# Altium schematic symbol library connectors.SchLib: 81 symbols
Pins are listed as number, name and electrical type; pins without a type are passive.

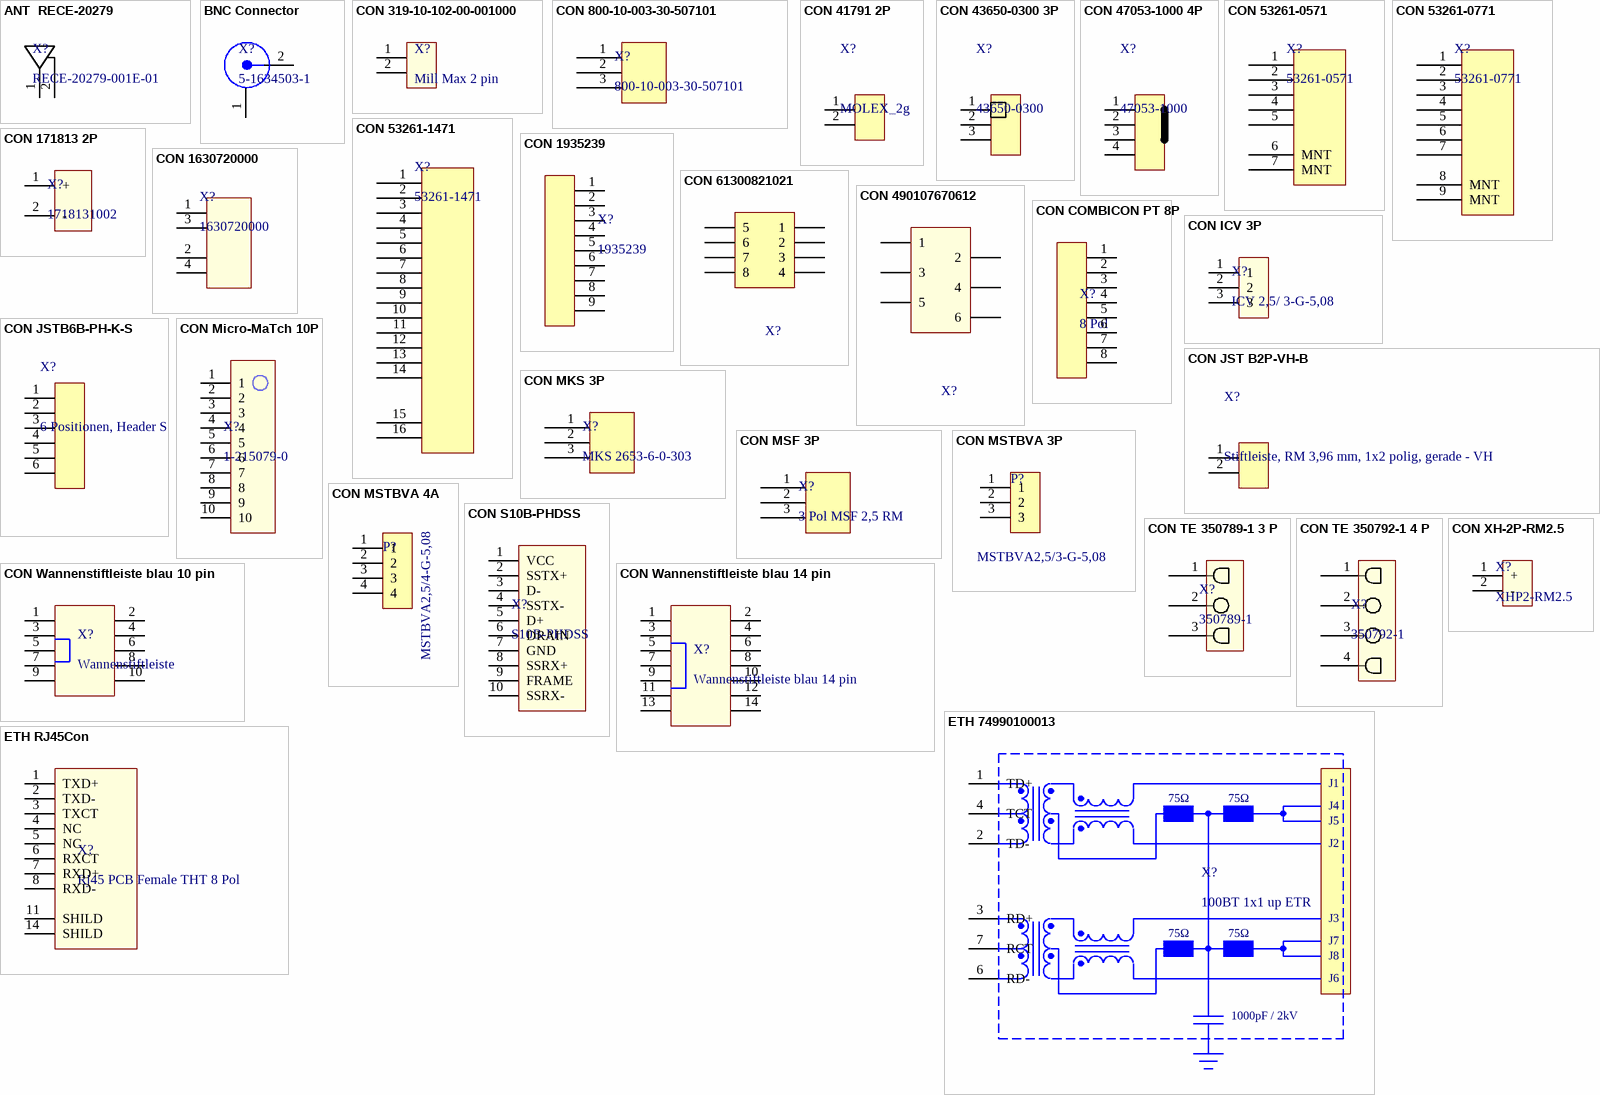
[diagram p0: symbols ANT  RECE-20279 to ETH RJ45Con]

## ANT  RECE-20279
designator X?, comment RECE-20279-001E-01
RF-Steckverbinder/Koaxial-Steckverbinder ONBRD IPEX MHF RECEPTACLE; Manufacturer: TAOGLAS; Manufacturer Part Number: RECE-20279-001E-01; Created By: Nils Minor
footprint IPEX-20279-001E
pins: 1 "USB Vcc [Red]", 2 "USB Data - [White]"

## BNC Connector
designator X?, comment 5-1634503-1
BNC Connector; Manufacturer: TE Connectivity (Tyco Electronics); Manufacturer Part Number: 5-1634503-1; Created By: Nils Minor
footprint 5-1634503-1
pins: 1 "USB Vcc [Red]", 2 "USB Data - [White]"

## CON 319-10-102-00-001000
designator X?, comment Mill Max 2 pin
824-22-002-00-001000; Manufacturer Part Number: 319-10-102-00-001000; Created By: Nils Minor; Manufacturer: Mill Max
footprint 319-10-102-00-001000
pins: 1, 2

## CON 800-10-003-30-507101
designator X?, comment 800-10-003-30-507101
3POL Steckverbinder; Manufacturer: Preci DIP; Created By: Nils Minor; Manufacturer Part Number: 800-10-003-30-507101
footprint 800-10-003-30-507101
pins: 1, 2, 3

## CON 41791 2P
designator X?, comment MOLEX_2g
MOLEX Baureihe 41791; Created by: Nils Minor; Manufacturer: 26-60-4020; Manufacturer Part Number: Molex
footprint Molex_2p_180
pins: 1, 2

## CON 43650-0300 3P
designator X?, comment 43650-0300
Connector Wire to Board Header 3 Position 3mm Solder Right Angle Thru-Hole; Manufacturer Part Number: Molex; Created by: Nils Minor; Manufacturer: 43650-0300
footprint Molex_43650-0300_0
pins: 1, 2, 3

## CON 47053-1000 4P
designator X?, comment 47053-1000
KK® 254 Vertical Header, with Friction Lock, 4 Circuits, PC Tail Length: 3.50mm; Manufacturer Part Number: Molex; Created by: Nils Minor; Manufacturer: 47053-1000
footprint Molex_47053-1000_0
pins: 1, 2, 3, 4

## CON 53261-0571
designator X?, comment 53261-0571
1.25mm (.049") Pitch PicoBlade Header, Surface Mount, Right Angle, Lead-free, 05 Circuits; Manufacturer: Molex; Manufacturer Part Number: 53261-0571; Created By: Nils Minor
footprint 53261-0571
pins: 1, 2, 3, 4, 5, 6 MNT, 7 MNT

## CON 53261-0771
designator X?, comment 53261-0771
1.25mm (.049") Pitch PicoBlade Header, Surface Mount, Right Angle, Lead-free, 7 Circuits; Manufacturer: Molex; Manufacturer Part Number: 53261-0771; Created By: Nils Minor
footprint 53261-0771
pins: 1, 2, 3, 4, 5, 6, 7, 8 MNT, 9 MNT

## CON 53261-1471
designator X?, comment 53261-1471
1.25mm (.049") Pitch PicoBlade Header, Surface Mount, Right Angle, Lead-free, 14 Circuits; Manufacturer: Molex; Manufacturer Part Number: 53261-1471; Created By: Nils Minor
footprint 53261-1471
pins: 1, 2, 3, 4, 5, 6, 7, 8, 9, 10, 11, 12, 13, 14, 15, 16

## CON 171813 2P
designator X?, comment 1718131002
Sockel & Kabelgehäuse KK Hdr Vrt 2 Ckt 3.96mm Pitch 15um Au; Manufacturer: Molex; Manufacturer Part Number: 171813-1002; Created By: Nils Minor
footprint Molex 2Pin Connector KK-Serie (www.molex.com/pdm_docs/sd/1718131002_sd.pdf)
pins: 1 +, 2 -

## CON 1935239
designator X?, comment 1935239
Terminal BLOCK PCB 9POS 5.0MM GREEN; Manufacturer: Phoenix Contact; Manufacturer Part Number: 1935239; Created By: Nils Minor
footprint 1935239
pins: 1, 2, 3, 4, 5, 6, 7, 8, 9

## CON 1630720000
designator X?, comment 1630720000
Conn Board to Board SKT 3 POS 5.08mm Solder ST Thru-Hole Box; Created By: Nils Minor
footprint BLL 5.08_3_180 3.2 SN OR 1630720000
pins: 1, 2, 3, 4

## CON 61300821021
designator X?, comment 08p  (value not drawn)
WR-PHD 2.54 mm THT Angled Dual Pin Header, 08p; Created by: Nils Minor
footprint 61300821021
pins: 1, 2, 3, 4, 5, 6, 7, 8

## CON 490107670612
designator X?, comment 490107670612  (value not drawn)
REDFIT IDC SKEDD Connector WR-WST, 6 pin; Created by: Nils Minor
footprint 490107670612
pins: 1, 2, 3, 4, 5, 6

## CON COMBICON PT 8P
designator X?, comment 8 Pol
Terminal BLOCK PCB 8POS 5.0MM GREEN; Manufacturer: Phoenix Contact; Manufacturer Part Number: 1935226; Created By: Nils Minor
footprint 1935226
pins: 1, 2, 3, 4, 5, 6, 7, 8

## CON ICV 3P
designator X?, comment ICV 2,5/ 3-G-5,08
ICV 2,5/ 3-G-5,08 -  Reihenklemme, Buchse, 5.08 mm, 3 -polig, 12 A, 320 V, Durchsteckmontage, vertikal; Manufacturer: Phoenix Contact; Manufacturer Part Number: ICV 2,5/ 3-G-5,08; Created By: Nils Minor
footprint ICV 2,5/ 3-G-5,08 (1785955)
pins: 1, 2, 3

## CON JST B2P-VH-B
designator X?, comment Stiftleiste, RM 3,96 mm, 1x2 polig, gerade - VH
Manufacturer: JST; Manufacturer Part Number: B2P-VH-B; Value: Steckverbinder; Created by: Nils Minor
footprint B2P-VH-B
pins: 1, 2

## CON JSTB6B-PH-K-S
designator X?, comment 6 Positionen, Header Steckverbinder, 0,079" (2,00 mm), Durchführungsloch, rechtwinklig, Zinn
6 Positionen, Header Steckverbinder, 0,079" (2,00 mm), Durchführungsloch; Manufacturer: JST; Manufacturer Part Number: JSTB6B-PH-K-S(LF)(SN); Created by: Nils Minor; Value: Steckverbinder
footprint B6B-PH-K-S
pins: 1, 2, 3 1, 4, 5, 6

## CON Micro-MaTch 10P
designator X?, comment 1-215079-0
Wire-To-Board-Steckverbinder, 1.27 mm, 10 Kontakt(e), Buchse, Baureihe Micro-MaTch; Manufacturer: TE Connectivity; Manufacturer Part Number: 1-215079-0; Created By: Nils Minor
footprint MicroMatch_10Pol (1-215079-0)
pins: 1, 2, 3, 4, 5, 6, 7, 8, 9, 10

## CON MKS 3P
designator X?, comment MKS 2653-6-0-303
3POL Steckverbinder; Manufacturer: Stocko; Created By: Nils Minor; Manufacturer Part Number: MKS 2653-6-0-303
footprint MKS 2653-6-0-303
pins: 1, 2, 3

## CON MSF 3P
designator X?, comment 3 Pol MSF 2,5 RM
Minimodul™-Stiftleiste, stehend, mit Verriegelungslasche, Lötkontakte einreihig; Manufacturer: Lumberg; Manufacturer Part Number: 2,5 MSF 03; Created By: Nils Minor
footprint 2,5 MSF/O 03
pins: 1, 2, 3

## CON MSTBVA 3P
designator P?, comment MSTBVA2,5/3-G-5,08
Steckbare Anschlussblöcke 3POS 5.08MM PITCH TH PARALLEL/VERTICAL; Manufacturer: Phoenix Contact; Manufacturer Part Number: 1755749; Created by: Nils Minor
footprint MSTBVA3/5,08
pins: 1, 2, 3

## CON MSTBVA 4A
designator P?, comment MSTBVA2,5/4-G-5,08
Steckbare Anschlussblöcke 4 Pos 5.08mm pitch Through Hole Header; Manufacturer: Phoenix Contact; Manufacturer Part Number: 1755752; Created by: Nils Minor
footprint MSTBVA4/5,08
footprint MSTBVA4/5.08
pins: 1, 2, 3, 4

## CON S10B-PHDSS
designator X?, comment S10B-PHDSS
Conn Shrouded Header HDR 10 POS 2mm Solder RA Thru-Hole Box; Manufacturer: JST; Manufacturer Part Number: S10B-PHDSS(LF)(SN); Created By: Nils Minor
footprint B10B-PHDSS (Stehend (Top Entery))
pins: 1 VCC, 2 SSTX+, 3 D-, 4 SSTX-, 5 D+, 6 DRAIN, 7 GND, 8 SSRX+, 9 FRAME, 10 SSRX-

## CON TE 350789-1 3 P
designator X?, comment 350789-1
Wire-To-Board-Steckverbinder, vertikal, 6.35 mm, 3 Kontakt(e), Stiftleiste; Manufacturer: TE Connectivity; Manufacturer Part Number: 350789-1; Created By: Nils Minor
footprint 350789-1
pins: 1, 2, 3

## CON TE 350792-1 4 P
designator X?, comment 350792-1
CONN HEADER 4POS VERT .250 TIN; Manufacturer: TE Connectivity; Manufacturer Part Number: 350792-1; Created By: Nils Minor
footprint 350792-1
pins: 1, 2, 3, 4

## CON Wannenstiftleiste blau 10 pin
designator X?, comment Wannenstiftleiste
Wannenstiftleiste blau 10 pin; Created By: Nils Minor
footprint Wannenstiftleiste 10p
pins: 1, 2, 3, 4, 5, 6, 7, 8, 9, 10

## CON Wannenstiftleiste blau 14 pin
designator X?, comment Wannenstiftleiste blau 14 pin
Created By: Nils Minor
footprint Wannenstiftleiste 14p
pins: 1, 2, 3, 4, 5, 6, 7, 8, 9, 10, 11, 12, 13, 14

## CON XH-2P-RM2.5
designator X?, comment XHP2-RM2.5
CONN HOUSING 2.5MM 2POS; Manufacturer: Japan Solderless Terminals (JST); Manufacturer Part Number: XHP-2; Created By: Nils Minor
footprint XH-2P-RM2.5
pins: 1 +, 2 -

## ETH 74990100013
designator X?, comment 100BT 1x1 up ETR
WE-RJ45LAN 10/100BaseT; Manufacturer: Wurth Elektronik; Created By: Nils Minor
footprint 74990100013 (WE-RJ45LAN 10/100BaseT, THT)
pins: 1 TD+, 2 TD-, 3 RD+, 4 TCT, 6 RD-, 7 RCT
text: J1; 75Ω; J4; J5; J2; J3; J7; J8; J6; 1000pF / 2kV

## ETH RJ45Con
designator X?, comment Rj45 PCB Female THT 8 Pol
Created By: Nils Minor
footprint Valorcon
pins: 1 TXD+, 2 TXD-, 3 TXCT, 4 NC, 5 NC, 6 RXCT, 7 RXD+, 8 RXD-, 11 SHILD, 14 SHILD

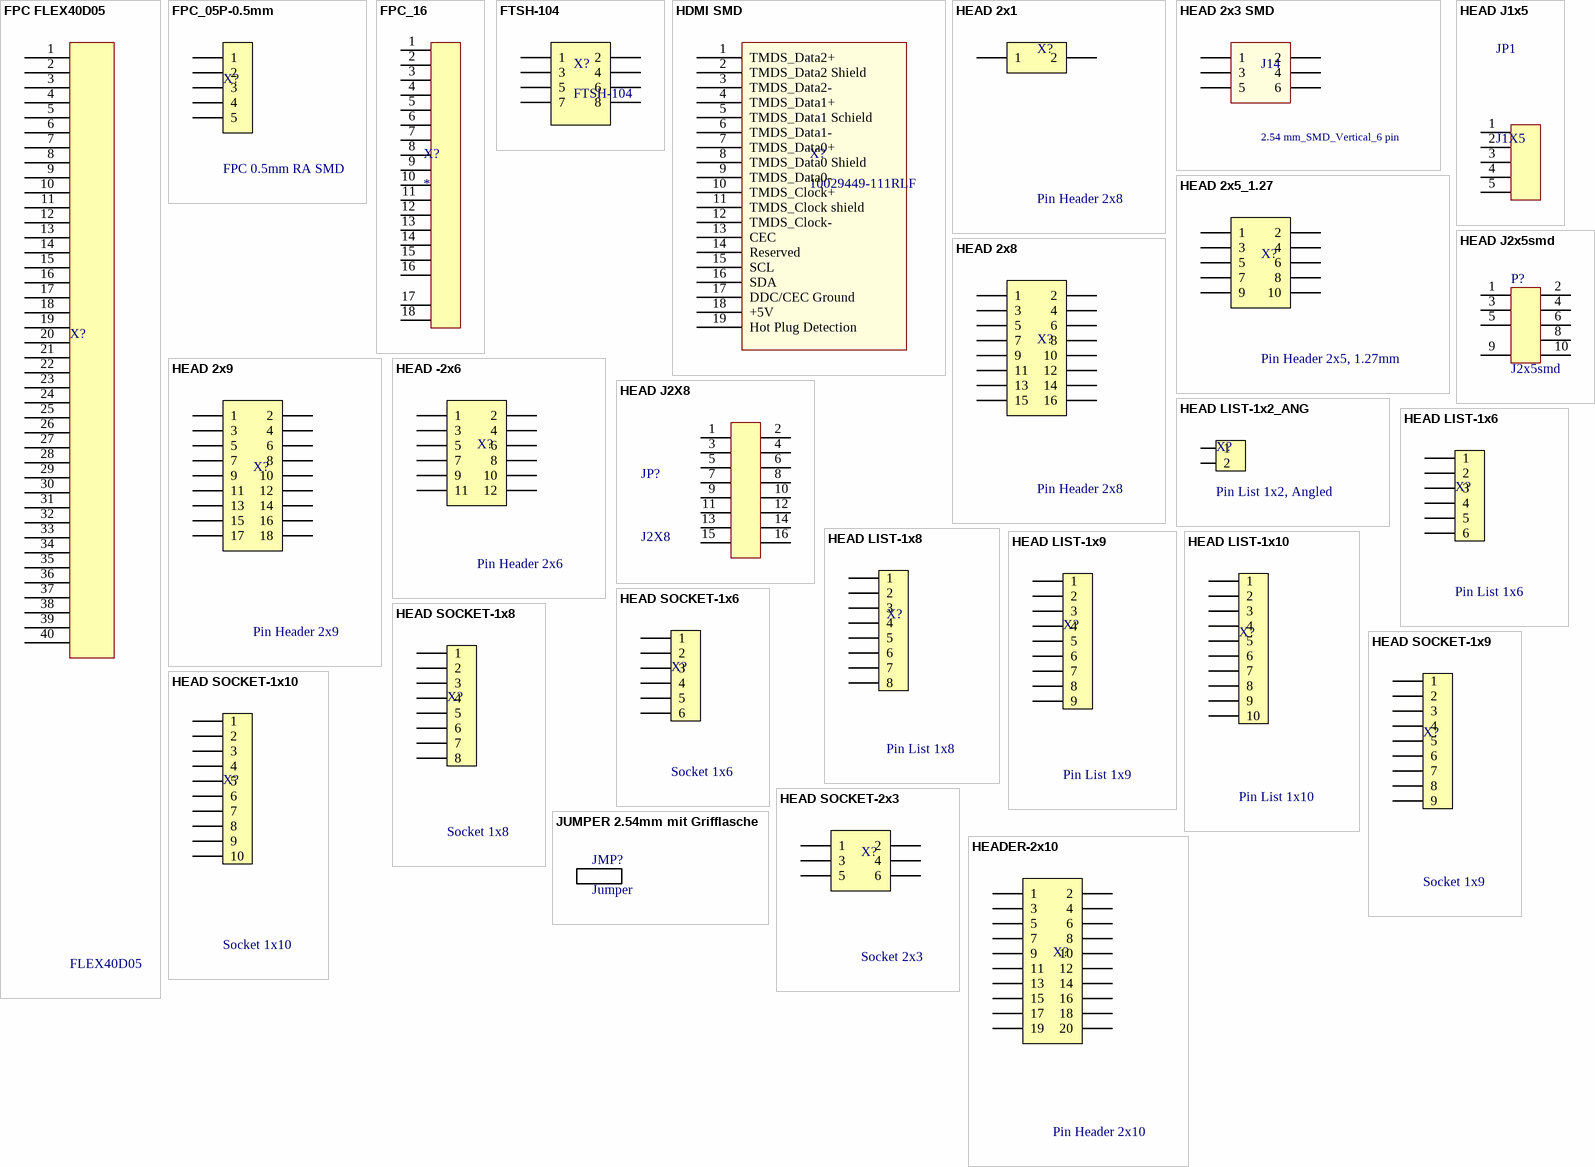
[diagram p1: symbols FPC FLEX40D05 to JUMPER 2.54mm mit Grifflasche]

## FPC FLEX40D05
designator X?, comment FLEX40D05
Steckverbinder für Flex-Kabel (LCD-Display), Fa. Molex; Created by: Nils Minor
footprint FLEX40D05
pins: 1, 2, 3, 4, 5, 6, 7, 8, 9, 10, 11, 12, 13, 14, 15, 16, 17, 18, 19, 20, 21, 22, 23, 24, 25, 26, 27, 28, 29, 30, 31, 32, 33, 34, 35, 36, 37, 38, 39, 40

## FPC_05P-0.5mm
designator X?, comment FPC 0.5mm RA SMD
0.5mm FPC, 5P,Right Angle SMT,Double Contact,H=1.2mm,White, Tin plated; Manufacturer: W-CON; Manufacturer Part Number: 5141-05RZDNWR01; Value: FPC 0.5mm RA SMD; Created By: Nils Minor
footprint FPC_05P-0.5mm-RA-SMD
pins: 1, 2, 3 (power), 4 (power), 5 (power)

## FPC_16
designator X?
FPC Connector, AMP 1-84952-6; Manufacturer: TE Connectivity (Tyco Electronics); Manufacturer Part Number: 1-1734592-6; Created By: Nils Minor
footprint FPC_16P_1MM
pins: 1, 2, 3, 4, 5, 6, 7, 8, 9, 10, 11, 12, 13, 14, 15, 16, 17, 18

## FTSH-104
designator X?
SMD Programmierschnittstelle 1.27mm; Manufacturer: Samtec; Manufacturer Part Number: FTSH-104-01-L-D; Created By: Nils Minor
footprint FTSH-104
pins: 1, 2, 3, 4, 5, 6, 7, 8

## HDMI SMD
designator X?, comment 10029449-111RLF
HDMI  Receptacle Connector 19 Position Surface Mount, Right Angle, Horizontal; Manufacturer: Amphenol / FCI; Manufacturer Part Number: 10029449-111RLF; Created By: Nils Minor
footprint 10029449-111RLF (HDMI-Buchse SMD)
pins: 1 TMDS_Data2+, 2 TMDS_Data2 Shield, 3 TMDS_Data2-, 4 TMDS_Data1+, 5 TMDS_Data1 Schield, 6 TMDS_Data1-, 7 TMDS_Data0+, 8 TMDS_Data0 Shield, 9 TMDS_Data0-, 10 TMDS_Clock+, 11 TMDS_Clock shield, 12 TMDS_Clock-, 13 CEC, 14 Reserved, 15 SCL, 16 SDA, 17 DDC/CEC Ground, 18 +5V, 19 Hot Plug Detection

## HEAD 2x1
designator X?, comment Pin Header 2x8
Pin Header 2x1, 2.54mm (100mil); Manufacturer: *; Manufacturer Part Number: *; Value: Pin Header 2x8; Created By: Nils Minor
footprint HDR-2 2.54 mm THT (Pin Header, pitch 2.54 mm, THT, Vertical, single row, 2p)
pins: 1, 2

## HEAD 2x3 SMD
designator J14, comment 2.54 mm_SMD_Vertical_6 pin
Pin Header WR-PHD, pitch 2.54 mm, SMD, Vertical, dual row, 6 pin; Manufacturer: Würth; Manufacturer Part Number: 61000621121; Created by: Nils Minor
footprint HEAD 61000621121 (Pin Header, pitch 2.54 mm, SMD, Vertical, dual row, 6p)
pins: 1, 2, 3, 4, 5, 6

## HEAD 2x5_1.27
designator X?, comment Pin Header 2x5, 1.27mm
Pin Header 2x5, 1.27mm (50mil), SMD, Keying Shroud; Manufacturer: WCON; Manufacturer Part Number: 3132-10MS0BK00R1; Value: Pin Header 2x5, 1.27mm; Created By: Nils Minor
footprint HDR_2x5-SMD-1.27mm-K
pins: 1, 2, 3, 4, 5, 6, 7, 8, 9, 10

## HEAD 2x8
designator X?, comment Pin Header 2x8
Pin Header 2x8, 2.54mm (100mil); Manufacturer: *; Manufacturer Part Number: *; Value: Pin Header 2x8; Created By: Nils Minor
footprint HDR_2x8
pins: 1, 2, 3, 4, 5, 6, 7, 8, 9, 10, 11, 12, 13, 14, 15, 16

## HEAD 2x9
designator X?, comment Pin Header 2x9
Pin Header 2x9, 2.54mm (100mil); Manufacturer: *; Manufacturer Part Number: *; Value: Pin Header 2x9; Created By: Nils Minor
footprint HDR_2x9
pins: 1, 2, 3, 4, 5, 6, 7, 8, 9, 10, 11, 12, 13, 14, 15, 16, 17, 18

## HEAD -2x6
designator X?, comment Pin Header 2x6
Pin Header 2x6, 2.54mm (100mil); Manufacturer: *; Manufacturer Part Number: *; Value: Pin Header 2x6; Created By: Nils Minor
footprint HDR_2x6
pins: 1, 2, 3, 4, 5, 6, 7, 8, 9, 10, 11, 12

## HEAD J1x5
designator JP1, comment J1X5
Jumper 1x5, Stift, gerade, RM 2.54; Value: Pin Header 1x5; Created By: Nils Minor
footprint SIP5
pins: 1, 2, 3, 4, 5

## HEAD J2x5smd
designator P?, comment J2x5smd
10 Poliger Stecker RM 1.27 SMD; Created by: Nils Minor
footprint HDR_2x5_SMD
pins: 1, 2, 3, 4, 5, 6, 8, 9, 10

## HEAD J2X8
designator JP?, comment J2X8
Jumper 2x8, Stift, gerade RM 2.54; Manufacturer Part Number: STBGS1G36L; Created by: Nils Minor
footprint J2X8
pins: 1, 2, 3, 4, 5, 6, 7, 8, 9, 10, 11, 12, 13, 14, 15, 16

## HEAD LIST-1x2_ANG
designator X?, comment Pin List 1x2, Angled
Pin List 1x2, 2.54mm (100mil), Right Angled, SMD; Manufacturer: W-CON; Manufacturer Part Number: 1125B-1102S0ZZ135R1; Value: Pin List 1x2, Angled; Created By: Nils Minor
footprint LIST_ANG_1x2-SMD-2.54MM
pins: 1, 2

## HEAD LIST-1x6
designator X?, comment Pin List 1x6
Pin List 1x6, 2.54mm (100mil), SMD; Manufacturer: *; Manufacturer Part Number: *; Value: Pin List 1x6; Created By: Nils Minor
footprint LIST_1x6_SMD
pins: 1, 2, 3 (power), 4 (power), 5 (power), 6 (power)

## HEAD LIST-1x8
designator X?, comment Pin List 1x8
Pin List 1x8, 2.54mm (100mil), SMD; Manufacturer: *; Manufacturer Part Number: *; Value: Pin List 1x8; Created By: Nils Minor
footprint LIST_1x8_SMD
pins: 1, 2, 3 (power), 4 (power), 5 (power), 6 (power), 7 (power), 8 (power)

## HEAD LIST-1x9
designator X?, comment Pin List 1x9
Pin List 1x9, 2.54mm (100mil), SMD; Manufacturer: *; Manufacturer Part Number: *; Value: Pin List 1x9; Created By: Nils Minor
footprint LIST_1x9_SMD
pins: 1, 2, 3 (power), 4 (power), 5 (power), 6 (power), 7 (power), 8 (power), 9 (power)

## HEAD LIST-1x10
designator X?, comment Pin List 1x10
Pin List 1x10, 2.54mm (100mil), SMD; Manufacturer: *; Manufacturer Part Number: *; Value: Pin List 1x10; Created By: Nils Minor
footprint LIST_1x10_SMD
pins: 1, 2, 3, 4, 5, 6, 7, 8, 9, 10

## HEAD SOCKET-1x6
designator X?, comment Socket 1x6
Socket 1x6, 2.54mm (100mil), SMD; Manufacturer: WCON; Manufacturer Part Number: 2171-106MS0CUNR1; Value: Socket 1x6; Created By: Nils Minor
footprint SOCKET_1x6_SMD
pins: 1, 2, 3, 4, 5, 6

## HEAD SOCKET-1x8
designator X?, comment Socket 1x8
Socket 1x8, 2.54mm (100mil), SMD; Manufacturer: WCON; Manufacturer Part Number: 2171-108MS0CUNR1; Value: Socket 1x8; Created By: Nils Minor
footprint SOCKET_1x8_SMD
pins: 1, 2, 3, 4, 5, 6, 7, 8

## HEAD SOCKET-1x9
designator X?, comment Socket 1x9
Socket 1x9, 2.54mm (100mil), SMD; Manufacturer: WCON; Manufacturer Part Number: 2171-109MS0CUNR1; Value: Socket 1x9; Created By: Nils Minor
footprint SOCKET_1x9_SMD
pins: 1, 2, 3 (power), 4 (power), 5 (power), 6 (power), 7 (power), 8 (power), 9 (power)

## HEAD SOCKET-1x10
designator X?, comment Socket 1x10
Socket 1x10, 2.54mm (100mil), SMD; Manufacturer: WCON; Manufacturer Part Number: 2171-110MS0CUNR1; Value: Socket 1x10; Created By: Nils Minor
footprint SOCKET_1x10_SMD
pins: 1, 2, 3, 4, 5, 6, 7, 8, 9, 10

## HEAD SOCKET-2x3
designator X?, comment Socket 2x3
Socket 2x3, 2.54mm (100mil), SMD; Manufacturer: Samtec; Manufacturer Part Number: SSM-103-F-DV-P-TR; Value: Socket 2x3; Created By: Nils Minor
footprint SOCKET_2x3_SMD-2.54mm-bottom
pins: 1, 2, 3 (power), 4 (power), 5 (power), 6 (power)

## HEADER-2x10
designator X?, comment Pin Header 2x10
Pin Header 2x10, 2.54mm (100mil); Manufacturer: *; Manufacturer Part Number: *; Value: Pin Header 2x10; Created By: Nils Minor
footprint HDR_2x10
pins: 1, 2, 3, 4, 5, 6, 7, 8, 9, 10, 11, 12, 13, 14, 15, 16, 17, 18, 19, 20

## JUMPER 2.54mm mit Grifflasche
designator JMP?, comment Jumper
footprint 609002115121

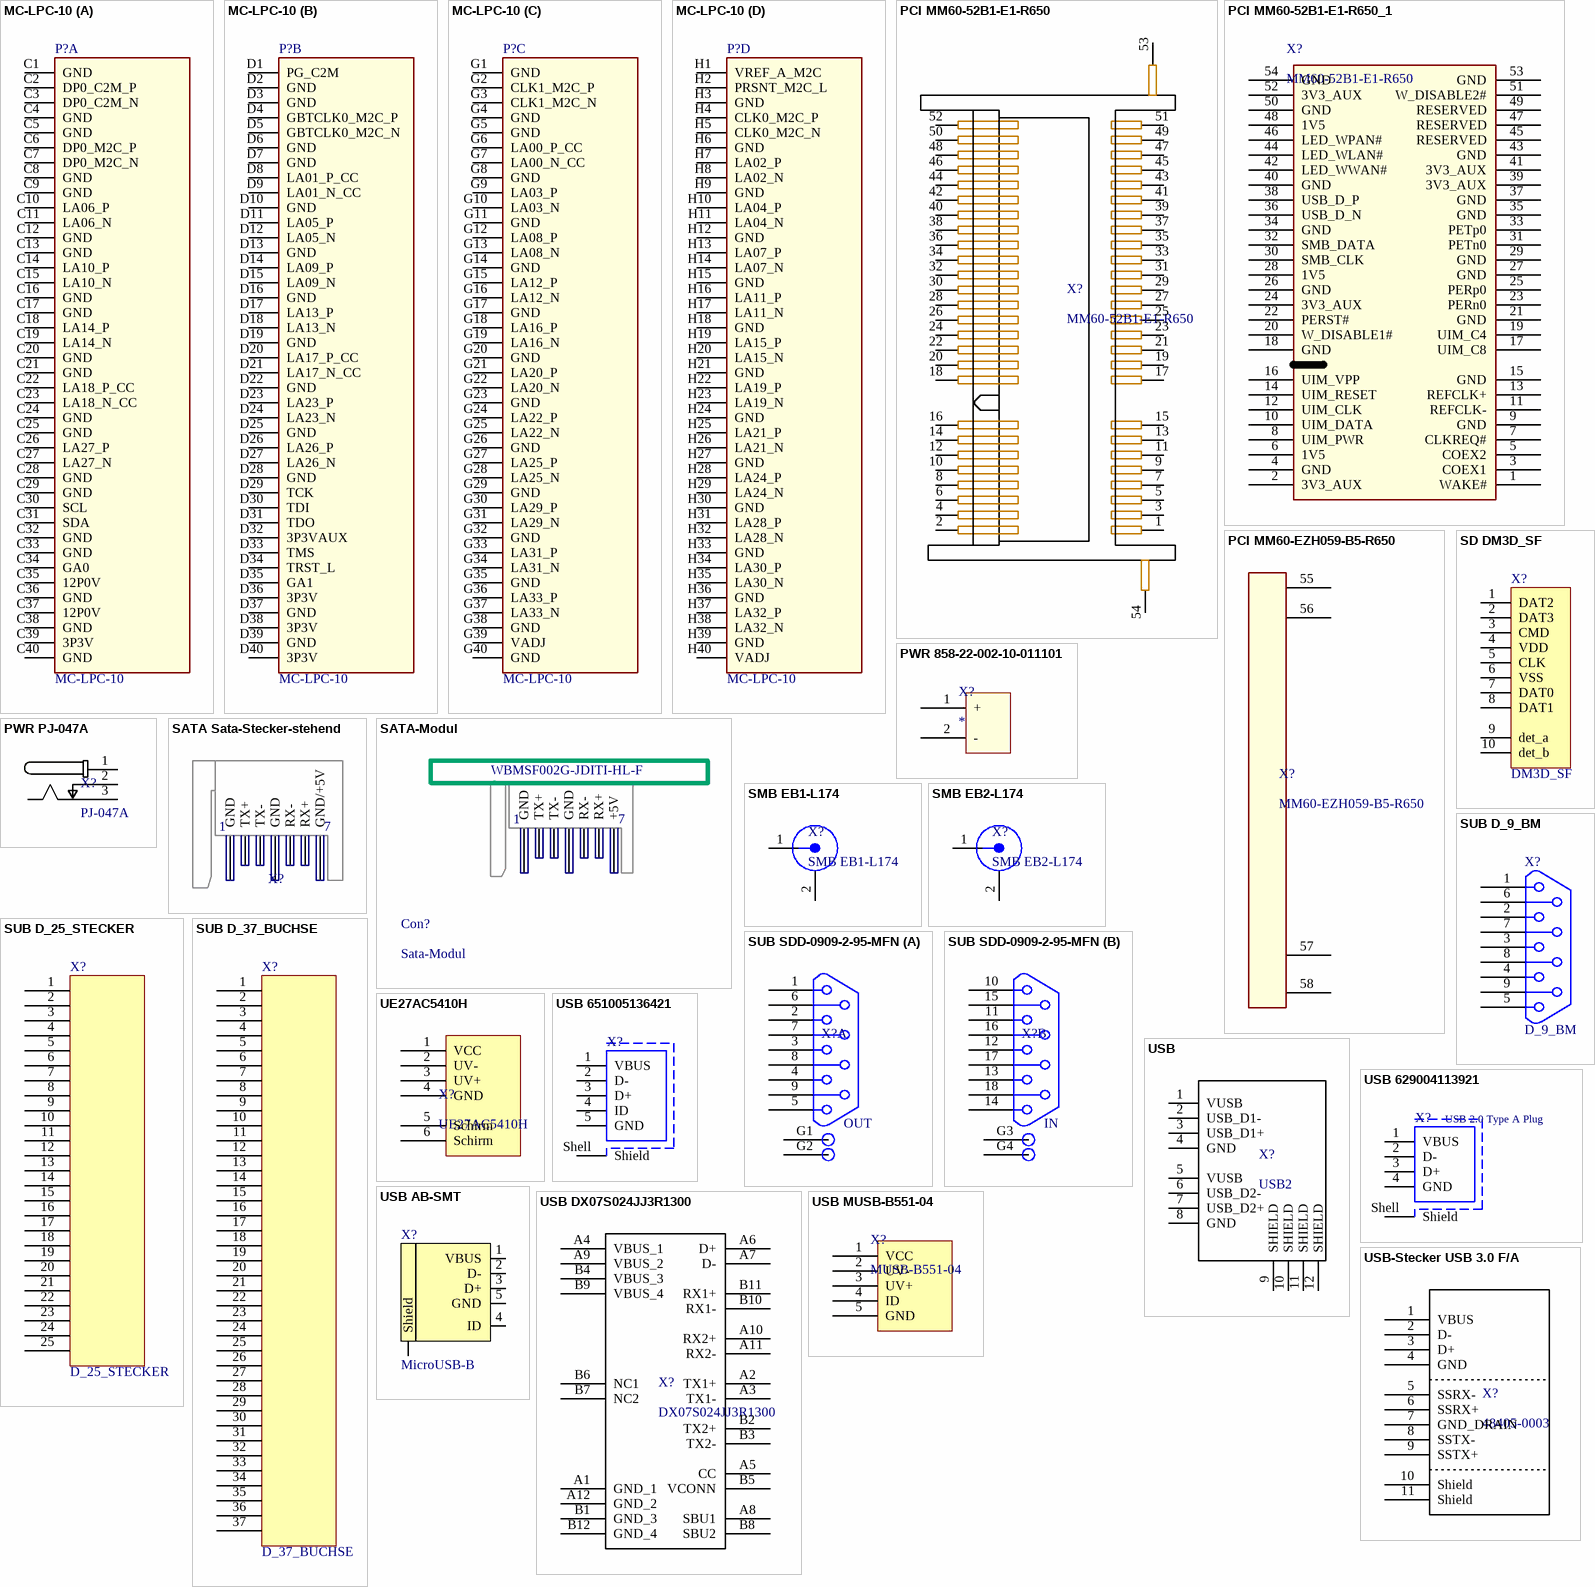
[diagram p2: symbols MC-LPC-10 to USB-Stecker USB 3.0 F/A]

## MC-LPC-10
designator P?
MC-LPC-10, FMC Low-pin count connector, lead free, 160 I/Os, male, 10 mm mated stack height; Manufacturer: Samtec
footprint ASP-134604-01 (MC-LPC-10, 1.27mm PITCH TERMINAL ARRAY ASSEMBLY, MALE, VITA 57 CONNECTOR)
part A pins: C1 GND, C2 DP0_C2M_P, C3 DP0_C2M_N, C4 GND, C5 GND, C6 DP0_M2C_P, C7 DP0_M2C_N, C8 GND, C9 GND, C10 LA06_P, C11 LA06_N, C12 GND, C13 GND, C14 LA10_P, C15 LA10_N, C16 GND, C17 GND, C18 LA14_P, C19 LA14_N, C20 GND, C21 GND, C22 LA18_P_CC, C23 LA18_N_CC, C24 GND, C25 GND, C26 LA27_P, C27 LA27_N, C28 GND, C29 GND, C30 SCL, C31 SDA, C32 GND, C33 GND, C34 GA0, C35 12P0V, C36 GND, C37 12P0V, C38 GND, C39 3P3V, C40 GND
part B pins: D1 PG_C2M, D2 GND, D3 GND, D4 GBTCLK0_M2C_P, D5 GBTCLK0_M2C_N, D6 GND, D7 GND, D8 LA01_P_CC, D9 LA01_N_CC, D10 GND, D11 LA05_P, D12 LA05_N, D13 GND, D14 LA09_P, D15 LA09_N, D16 GND, D17 LA13_P, D18 LA13_N, D19 GND, D20 LA17_P_CC, D21 LA17_N_CC, D22 GND, D23 LA23_P, D24 LA23_N, D25 GND, D26 LA26_P, D27 LA26_N, D28 GND, D29 TCK, D30 TDI, D31 TDO, D32 3P3VAUX, D33 TMS, D34 TRST_L, D35 GA1, D36 3P3V, D37 GND, D38 3P3V, D39 GND, D40 3P3V
part C pins: G1 GND, G2 CLK1_M2C_P, G3 CLK1_M2C_N, G4 GND, G5 GND, G6 LA00_P_CC, G7 LA00_N_CC, G8 GND, G9 LA03_P, G10 LA03_N, G11 GND, G12 LA08_P, G13 LA08_N, G14 GND, G15 LA12_P, G16 LA12_N, G17 GND, G18 LA16_P, G19 LA16_N, G20 GND, G21 LA20_P, G22 LA20_N, G23 GND, G24 LA22_P, G25 LA22_N, G26 GND, G27 LA25_P, G28 LA25_N, G29 GND, G30 LA29_P, G31 LA29_N, G32 GND, G33 LA31_P, G34 LA31_N, G35 GND, G36 LA33_P, G37 LA33_N, G38 GND, G39 VADJ, G40 GND
part D pins: H1 VREF_A_M2C, H2 PRSNT_M2C_L, H3 GND, H4 CLK0_M2C_P, H5 CLK0_M2C_N, H6 GND, H7 LA02_P, H8 LA02_N, H9 GND, H10 LA04_P, H11 LA04_N, H12 GND, H13 LA07_P, H14 LA07_N, H15 GND, H16 LA11_P, H17 LA11_N, H18 GND, H19 LA15_P, H20 LA15_N, H21 GND, H22 LA19_P, H23 LA19_N, H24 GND, H25 LA21_P, H26 LA21_N, H27 GND, H28 LA24_P, H29 LA24_N, H30 GND, H31 LA28_P, H32 LA28_N, H33 GND, H34 LA30_P, H35 LA30_N, H36 GND, H37 LA32_P, H38 LA32_N, H39 GND, H40 VADJ

## PCI MM60-52B1-E1-R650
designator X?, comment MM60-52B1-E1-R650
CONN MINI EXPRESS CARD 52POS SMD; Manufacturer: Japan Aviation Electronics Industry; Manufacturer Part Number: MM60-52B1-E1-R650; Created By: Nils Minor
footprint MM60-52B1-E1-R650
pins: 1, 2, 3, 4, 5, 6, 7, 8, 9, 10, 11, 12, 13, 14, 15, 16, 17, 18, 19, 20, 21, 22, 23, 24, 25, 26, 27, 28, 29, 30, 31, 32, 33, 34, 35, 36, 37, 38, 39, 40, 41, 42, 43, 44, 45, 46, 47, 48, 49, 50, 51, 52, 53, 54

## PCI MM60-52B1-E1-R650_1
designator X?, comment MM60-52B1-E1-R650
CONN MINI EXPRESS CARD 52POS SMD; Manufacturer: Japan Aviation Electronics Industry; Manufacturer Part Number: MM60-52B1-E1-R650; Created By: Nils Minor
footprint MM60-52B1-E1-R650
pins: 1 WAKE#, 2 3V3_AUX, 3 COEX1, 4 GND, 5 COEX2, 6 1V5, 7 CLKREQ#, 8 UIM_PWR, 9 GND, 10 UIM_DATA, 11 REFCLK-, 12 UIM_CLK, 13 REFCLK+, 14 UIM_RESET, 15 GND, 16 UIM_VPP, 17 UIM_C8, 18 GND, 19 UIM_C4, 20 W_DISABLE1# , 21 GND, 22 PERST#, 23 PERn0, 24 3V3_AUX, 25 PERp0, 26 GND, 27 GND, 28 1V5, 29 GND, 30 SMB_CLK, 31 PETn0, 32 SMB_DATA, 33 PETp0, 34 GND, 35 GND, 36 USB_D_N, 37 GND, 38 USB_D_P, 39 3V3_AUX, 40 GND, 41 3V3_AUX, 42 LED_WWAN# , 43 GND, 44 LED_WLAN# , 45 RESERVED, 46 LED_WPAN# , 47 RESERVED, 48 1V5, 49 RESERVED, 50 GND, 51 W_DISABLE2#, 52 3V3_AUX, 53 GND, 54 GND

## PCI MM60-EZH059-B5-R650
designator X?, comment MM60-EZH059-B5-R650
CONN MINI EXPRESS CARD LATCH SMD; Manufacturer: Japan Aviation Electronics Industry; Manufacturer Part Number: MM60-EZH059-B5-R650; Created By: Nils Minor
footprint MM60-EZH059-B5-R650
pins: 55, 56, 57, 58

## PWR 858-22-002-10-011101
designator X?
Magnetic Connector; Manufacturer: Mill-Max; Manufacturer Part Number: 858-22-002-10-011101; Created By: Nils Minor
footprint 858-22-002-10-011101
pins: 1 +, 2 -

## PWR PJ-047A
designator X?, comment PJ-047A
DC Power Connectors Power Jacks; Manufacturer: CUI; Manufacturer Part Number: PJ-037AH; Created By: Nils Minor
footprint PJ-047A (2.1mm DC Power Jack)
pins: 1, 2, 3

## SATA Sata-Stecker-stehend
designator X?, comment Sata_Stecker-stehend  (value not drawn)
Name Type Description    Sata-Modul Footprint Sata-Modul mit Molex Sata THT Stecker Conn SATA HDR 7 POS 1.27mm Solder ST Thru-Hole 7 Terminal 1 Port Tray; Manufacturer Part Number: 0678008005; Manufacturer: Molex; Created By: Nils Minor
footprint Sata-Stecker-stehend (Sata-Modul mit Molex Sata THT Stecker (http://www.digikey.de/product-detail/de/0678008005/WM19103-ND/1499151))
pins: 1 GND, 2 TX+, 3 TX-, 4 GND, 5 RX-, 6 RX+, 7 GND/+5V

## SATA-Modul
designator Con?, comment Sata-Modul
Sata-Modul Firma deccaelectronic WBMSF002G-JDITI-HL-F; Created by: Nils Minor
footprint Sata-Modul (Sata-Modul mit Molex Sata THT Stecker (http://www.digikey.de/product-detail/de/0678008005/WM19103-ND/1499151))
pins: 1 GND, 2 TX+, 3 TX-, 4 GND, 5 RX-, 6 RX+, 7 +5V
text: WBMSF002G-JDITI-HL-F

## SD DM3D_SF
designator X?, comment DM3D_SF
Micro-SD connector; Manufacturer: Hirose Electric Co Ltd; Manufacturer Part Number: DM3D-SF; Created by: Nils Minor
footprint DM3D_SF
pins: 1 DAT2, 2 DAT3, 3 CMD, 4 VDD, 5 CLK, 6 VSS, 7 DAT0, 8 DAT1, 9 det_a, 10 det_b

## SMB EB1-L174
designator X?
Created By: Nils Minor
footprint SMB EB1-L174 (http://cdn-reichelt.de/documents/datenblatt/C110/SMB-PCBW.pdf)
pins: 1 "USB Data - [White]", 2 "USB Vcc [Red]"

## SMB EB2-L174
designator X?
Created By: Nils Minor
footprint SMB EB2-L174 (http://cdn-reichelt.de/documents/datenblatt/C110/SMB-PCBW.pdf)
pins: 1 "USB Data - [White]", 2 "USB Vcc [Red]"

## SUB D_9_BM
designator X?, comment D_9_BM
9-pol Sub-D, Printmontage, abgewinkelt, Stecker; Created by: Nils Minor
footprint DB9RA/M
pins: 1, 2, 3, 4, 5, 6, 7, 8, 9

## SUB D_25_STECKER
designator X?, comment D_25_STECKER
25-pol Sub-D Stecker, Printmontage, abgewinkelt; Created by: Nils Minor
footprint DB25/M
pins: 1, 2, 3, 4, 5, 6, 7, 8, 9, 10, 11, 12, 13, 14, 15, 16, 17, 18, 19, 20, 21, 22, 23, 24, 25

## SUB D_37_BUCHSE
designator X?, comment D_37_BUCHSE
37-pol Sub-D Buchse, Printmontage, abgewinkelt; Created by: Nils Minor
footprint DB37/F
pins: 1, 2, 3, 4, 5, 6, 7, 8, 9, 10, 11, 12, 13, 14, 15, 16, 17, 18, 19, 20, 21, 22, 23, 24, 25, 26, 27, 28, 29, 30, 31, 32, 33, 34, 35, 36, 37

## SUB SDD-0909-2-95-MFN
designator X?, comment SDD-0909-2-95-MFN  (value not drawn)
SUB-D 2 reihig; Created By: Nils Minor
footprint SDD-0909-2-95-MFN
part A pins: 1, 2, 3, 4, 5, 6, 7, 8, 9, G1, G2
part B pins: 10, 11, 12, 13, 14, 15, 16, 17, 18, G3 G2, G4
part A text: OUT
part B text: IN

## UE27AC5410H
designator X?
Manufacturer: Amphenol / Amphenol Commercial Products; Manufacturer Part Number: UE27AC5410H; Created By: Nils Minor
footprint UE27AC5410H
pins: 1 VCC, 2 UV-, 3 UV+, 4 GND, 5 Schirm, 6 Schirm

## USB
designator X?, comment USB2
2 x USB 22.0 Buchse; Created By: Nils Minor
footprint USB2
pins: 1 VUSB, 2 USB_D1-, 3 USB_D1+, 4 GND, 5 VUSB, 6 USB_D2-, 7 USB_D2+, 8 GND, 9 SHIELD, 10 SHIELD, 11 SHIELD, 12 SHIELD

## USB 629004113921
designator X?, comment USB 2.0 Type A Plug
USB 2.0 Type A Plug WR-COM, Horizontal, SMT, with Clips
footprint 629004113921
pins: 1 VBUS, 2 D-, 3 D+, 4 GND, Shell Shield

## USB 651005136421
designator X?
Mini USB 2.0 Type B Receptacle WR-COM, Vertical, THT
footprint 651005136421
pins: 1 VBUS, 2 D-, 3 D+, 4 ID, 5 GND, Shell Shield

## USB AB-SMT
designator X?, comment MicroUSB-B
MicroUSB-B-SMT; Manufacturer: Allen Creations Corp.; Manufacturer Part Number: AJU55-BS2111-L; Value: MicroUSB-B; Created By: Nils Minor
footprint USB-Micro-B-RA-SMD-PiP
pins: 1 VBUS (power), 2 D-, 3 D+, 4 ID, 5 GND (power), 6 Shield (power)

## USB DX07S024JJ3R1300
designator X?, comment DX07S024JJ3R1300
USB Type-C™ Connector DX07 Series; Manufacturer: Japan Aviation Electronics Industry; Manufacturer Part Number: DX07S024JJ3R1300; Created By: Nils Minor
footprint DX07S024JJ3R1300 (USB Type-C Connector)
pins: A1 GND_1, A2 TX1+, A3 TX1-, A4 VBUS_1, A5 CC, A6 D+, A7 D-, A8 SBU1, A9 VBUS_2, A10 RX2+, A11 RX2-, A12 GND_2, B1 GND_3, B2 TX2+, B3 TX2-, B4 VBUS_3, B5 VCONN, B6 NC1, B7 NC2, B8 SBU2, B9 VBUS_4, B10 RX1-, B11 RX1+, B12 GND_4

## USB MUSB-B551-04
designator X?, comment MUSB-B551-04
USB - mini B USB 2.0 Receptacle Connector 5 Position Panel Mount, Through Hole; Manufacturer: Amphenol / Amphenol Commercial Products; Manufacturer Part Number: MUSB-B551-04; Created By: Nils Minor
footprint MUSBB55104
pins: 1 VCC, 2 UV-, 3 UV+, 4 ID, 5 GND

## USB-Stecker USB 3.0 F/A
designator X?, comment 48405-0003
USB-Stecker USB 3.0 F/A; Manufacturer: Molex; Manufacturer Part Number: 48405-0003; Created By: Nils Minor
footprint USB-Stecker USB 3.0 (Molex USB 3.0 Conector (48405-0003))
pins: 1 VBUS, 2 D-, 3 D+, 4 GND, 5 SSRX-, 6 SSRX+, 7 GND_DRAIN, 8 SSTX-, 9 SSTX+, 10 Shield, 11 Shield